# Altium schematic symbol library 1206 0.5R.Schlib: 1 symbol
Pins are listed as number, name and electrical type; pins without a type are passive.

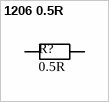
[diagram p0: symbol 1206 0.5R]

## 1206 0.5R
designator R?, comment value 0.5R  (hidden comment: Resistor)
0.5Ω ±5% 1/4W ±800ppm/°C 1206 Low Resistors & Current Sense Resistors - Surface Mount RoHS; LCSC Part #: C247433; JLCPCB Part Type: Extended
footprint RES 1206_3216 (Chip Resistor, 2-Leads, Body 3.13x1.55mm, IPC Medium Density)
pins: 1, 2